# Altium footprint library QFN.PcbLib: 8 footprints
Each footprint in its own frame and in the unit in brackets; x right, y up, seen from the top. Pads: shape width x height; smd on the part's side, far side on the other; paste and mask are expansions set on the pad; w line width, h text height; cw(c..) or ccw(c..) is an arc to the next point about the centre after c.
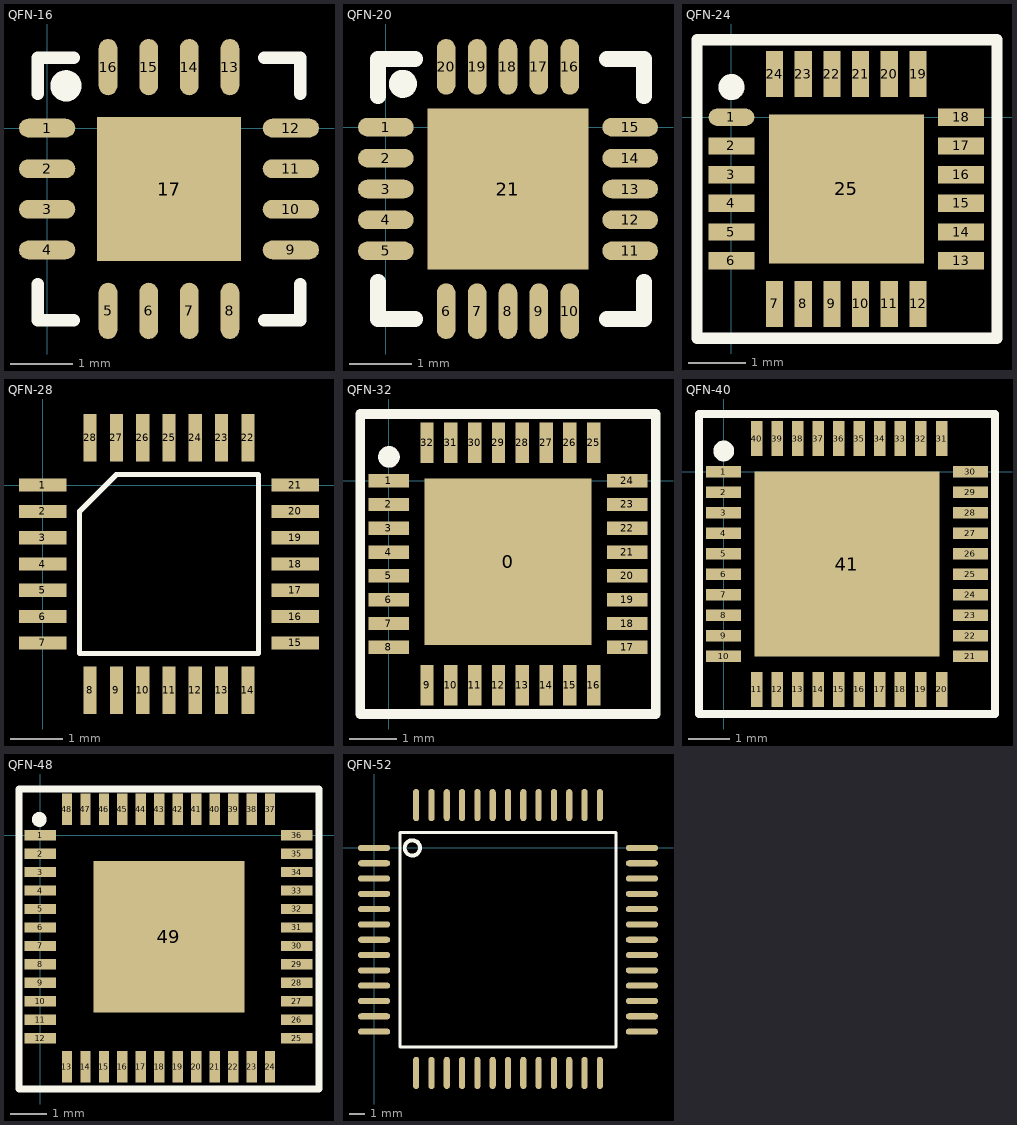
[diagram p0: the footprints below, top view; thin cyan lines are the x and y axes]

## QFN-16 [mm]
pads (17):
  oval 0.9x0.3 smd: 1(0,0) 2(0,-0.65) 3(0,-1.3) 4(0,-1.95) 9(3.9,-1.95) 10(3.9,-1.3) 11(3.9,-0.65) 12(3.9,0)
  oval 0.3x0.9 smd: 5(0.975,-2.925) 6(1.625,-2.925) 7(2.275,-2.925) 8(2.925,-2.925) 13(2.925,0.975) 14(2.275,0.975) 15(1.625,0.975) 16(0.975,0.975)
  rect 2.3x2.3 smd: 17(1.95,-0.975)
Top Overlay:
  circle w0.25: c0.301,0.676 r0.125
  lines w0.2: -0.15,-2.5 -0.15,-3.075 0.425,-3.075 ; -0.15,0.55 -0.15,1.125 0.425,1.125 ; 3.475,-3.075 4.05,-3.075 4.05,-2.5 ; 3.475,1.125 4.05,1.125 4.05,0.55
Mechanical 15:
  lines w0.1: 1.45,-0.975 2.45,-0.975 ; 1.95,-1.475 1.95,-0.475
3D body: height 1, standoff 0, extent -0.125,-3.05 4.025,1.1

## QFN-20 [mm]
pads (21):
  oval 0.9x0.3 smd: 1(0,0) 2(0,-0.5) 3(0,-1) 4(0,-1.5) 5(0,-2) 11(3.95,-2) 12(3.95,-1.5) 13(3.95,-1) 14(3.95,-0.5) 15(3.95,0)
  oval 0.3x0.9 smd: 6(0.975,-2.975) 7(1.475,-2.975) 8(1.975,-2.975) 9(2.475,-2.975) 10(2.975,-2.975) 16(2.975,0.975) 17(2.475,0.975) 18(1.975,0.975) 19(1.475,0.975) 20(0.975,0.975)
  rect 2.6x2.6 smd: 21(1.975,-1)
Top Overlay:
  circle w0.254: c0.275,0.7 r0.1
  lines w0.254: -0.125,-2.5 -0.125,-3.1 0.475,-3.1 ; -0.125,0.5 -0.125,1.1 0.475,1.1 ; 3.575,-3.1 4.175,-3.1 4.175,-2.5 ; 3.575,1.1 4.175,1.1 4.175,0.5
Mechanical 15:
  lines w0.1: 1.525,-0.975 2.525,-0.975 ; 2.025,-1.475 2.025,-0.475
3D body: height 0.92, standoff 0, extent -0.025,-3 3.975,1

## QFN-24 [mm]
pads (25):
  oval 0.8x0.3 smd mask+0.05: 1(0,0)
  rect 0.8x0.3 smd mask+0.05: 2(0,-0.5) 3(0,-1) 4(0,-1.5) 5(0,-2) 6(0,-2.5) 13(4,-2.5) 14(4,-2) 15(4,-1.5) 16(4,-1) 17(4,-0.5) 18(4,0)
  rect 0.3x0.8 smd mask+0.05: 7(0.75,-3.25) 8(1.25,-3.25) 9(1.75,-3.25) 10(2.25,-3.25) 11(2.75,-3.25) 12(3.25,-3.25) 19(3.25,0.75) 20(2.75,0.75) 21(2.25,0.75) 22(1.75,0.75) 23(1.25,0.75) 24(0.75,0.75)
  rect 2.7x2.6 smd mask+0.05: 25(2,-1.25)
Top Overlay:
  circle w0.254: c0,0.525 r0.1
  lines w0.2: -0.6,-3.85 4.625,-3.85 4.625,1.35 -0.6,1.35 -0.6,-3.85
3D body: height 1, standoff 0, extent 0,-3.25 4,0.75

## QFN-28 [mm]
pads (28):
  rect 0.9x0.25 smd mask+0.05: 1(0,0) 2(0,-0.5) 3(0,-1) 4(0,-1.5) 5(0,-2) 6(0,-2.5) 7(0,-3) 15(4.8,-3) 16(4.8,-2.5) 17(4.8,-2) 18(4.8,-1.5) 19(4.8,-1) 20(4.8,-0.5) 21(4.8,0)
  rect 0.25x0.9 smd mask+0.05: 8(0.9,-3.9) 9(1.4,-3.9) 10(1.9,-3.9) 11(2.4,-3.9) 12(2.9,-3.9) 13(3.4,-3.9) 14(3.9,-3.9) 22(3.9,0.9) 23(3.4,0.9) 24(2.9,0.9) 25(2.4,0.9) 26(1.9,0.9) 27(1.4,0.9) 28(0.9,0.9)
Top Overlay:
  lines w0.1: 0.7,-3.2 0.7,-0.5 1.4,0.2 4.1,0.2 4.1,-3.2 0.7,-3.2
3D body: height 1, standoff 0, extent -0.1,-4 4.9,1

## QFN-32 [mm]
pads (33):
  rect 3.5x3.5 smd mask+0.05: 0(2.5,-1.7)
  rect 0.85x0.28 smd mask+0.05: 1(0,0) 2(0,-0.5) 3(0,-1) 4(0,-1.5) 5(0,-2) 6(0,-2.5) 7(0,-3) 8(0,-3.5) 17(5,-3.5) 18(5,-3) 19(5,-2.5) 20(5,-2) 21(5,-1.5) 22(5,-1) 23(5,-0.5) 24(5,0)
  rect 0.28x0.85 smd mask+0.05: 9(0.8,-4.3) 10(1.3,-4.3) 11(1.8,-4.3) 12(2.3,-4.3) 13(2.8,-4.3) 14(3.3,-4.3) 15(3.8,-4.3) 16(4.3,-4.3) 25(4.3,0.8) 26(3.8,0.8) 27(3.3,0.8) 28(2.8,0.8) 29(2.3,0.8) 30(1.8,0.8) 31(1.3,0.8) 32(0.8,0.8)
Top Overlay:
  circle w0.254: c0,0.5 r0.1
  lines w0.2: -0.6,-4.9 -0.6,1.4 5.6,1.4 5.6,-4.9 -0.6,-4.9
3D body: height 1, standoff 0, extent 0,-4.2 5,0.8

## QFN-40 [mm]
pads (41):
  rect 0.85x0.28 smd mask+0.05: 1(0,0) 2(0,-0.5) 3(0,-1) 4(0,-1.5) 5(0,-2) 6(0,-2.5) 7(0,-3) 8(0,-3.5) 9(0,-4) 10(0,-4.5) 21(6,-4.5) 22(6,-4) 23(6,-3.5) 24(6,-3) 25(6,-2.5) 26(6,-2) 27(6,-1.5) 28(6,-1) 29(6,-0.5) 30(6,0)
  rect 0.28x0.85 smd mask+0.05: 11(0.8,-5.3) 12(1.3,-5.3) 13(1.8,-5.3) 14(2.3,-5.3) 15(2.8,-5.3) 16(3.3,-5.3) 17(3.8,-5.3) 18(4.3,-5.3) 19(4.8,-5.3) 20(5.3,-5.3) 31(5.3,0.8) 32(4.8,0.8) 33(4.3,0.8) 34(3.8,0.8) 35(3.3,0.8) 36(2.8,0.8) 37(2.3,0.8) 38(1.8,0.8) 39(1.3,0.8) 40(0.8,0.8)
  rect 4.5x4.5 smd mask+0.05: 41(3,-2.25)
Top Overlay:
  circle w0.254: c0,0.5 r0.125
  lines w0.2: -0.6,-5.9 6.6,-5.9 6.6,1.4 -0.6,1.4 -0.6,-5.9

## QFN-48 [mm]
pads (49):
  rect 0.85x0.28 smd: 1(0,0) 2(0,-0.5) 3(0,-1) 4(0,-1.5) 5(0,-2) 6(0,-2.5) 7(0,-3) 8(0,-3.5) 9(0,-4) 10(0,-4.5) 11(0,-5) 12(0,-5.5) 25(6.95,-5.5) 26(6.95,-5) 27(6.95,-4.5) 28(6.95,-4) 29(6.95,-3.5) 30(6.95,-3) 31(6.95,-2.5) 32(6.95,-2) 33(6.95,-1.5) 34(6.95,-1) 35(6.95,-0.5) 36(6.95,0)
  rect 0.28x0.85 smd: 13(0.725,-6.275) 14(1.225,-6.275) 15(1.725,-6.275) 16(2.225,-6.275) 17(2.725,-6.275) 18(3.225,-6.275) 19(3.725,-6.275) 20(4.225,-6.275) 21(4.725,-6.275) 22(5.225,-6.275) 23(5.725,-6.275) 24(6.225,-6.275) 37(6.225,0.7) 38(5.725,0.7) 39(5.225,0.7) 40(4.725,0.7) 41(4.225,0.7) 42(3.725,0.7) 43(3.225,0.7) 44(2.725,0.7) 45(2.225,0.7) 46(1.725,0.7) 47(1.225,0.7) 48(0.725,0.7)
  rect 4.1x4.1 smd: 49(3.487,-2.75)
Top Overlay:
  circle w0.2: c-0.025,0.425 r0.1
  lines w0.2: -0.575,-6.875 7.55,-6.875 7.55,1.25 1.475,1.25 -0.575,1.25 -0.575,-6.875
3D body: height 0.85, standoff -0.02, extent 0.46,-5.825 6.5,0.215

## QFN-52 [mm]
pads (52):
  oval 2.1x0.4 smd: 1(0,0) 2(0,-1) 3(0,-2) 4(0,-3) 5(0,-4) 6(0,-5) 7(0,-6) 8(0,-7) 9(0,-8) 10(0,-9) 11(0,-10) 12(0,-11) 13(0,-12) 27(17.5,-12) 28(17.5,-11) 29(17.5,-10) 30(17.5,-9) 31(17.5,-8) 32(17.5,-7) 33(17.5,-6) 34(17.5,-5) 35(17.5,-4) 36(17.5,-3) 37(17.5,-2) 38(17.5,-1) 39(17.5,0)
  oval 0.4x2.1 smd: 14(2.75,-14.7) 15(3.75,-14.7) 16(4.75,-14.7) 17(5.75,-14.7) 18(6.75,-14.7) 19(7.75,-14.7) 20(8.75,-14.7) 21(9.75,-14.7) 22(10.75,-14.7) 23(11.75,-14.7) 24(12.75,-14.7) 25(13.75,-14.7) 26(14.75,-14.7) 40(14.75,2.8) 41(13.75,2.8) 42(12.75,2.8) 43(11.75,2.8) 44(10.75,2.8) 45(9.75,2.8) 46(8.75,2.8) 47(7.75,2.8) 48(6.75,2.8) 49(5.75,2.8) 50(4.75,2.8) 51(3.75,2.8) 52(2.75,2.8)
Top Overlay:
  circle w0.254: c2.5,0 r0.5
  lines w0.2: 1.7,-13 1.7,1 15.8,1 15.8,-13 1.7,-13